# EAGLE library part 6123XX20621_61230820621 (library WR-BHD)
WR-BHD 2.54 mm Male Characteristics Working Voltage: 250 V UL approval: E323964 UL94-V0 Applications Industrial Production lines Details see: www.we-online.com/components/products/WTB_WR_BHD_BOX_HEADER_2_54MM_MALE_PCB Updated by Ella 2026-09-16 2026 (C) Würth Elektronik
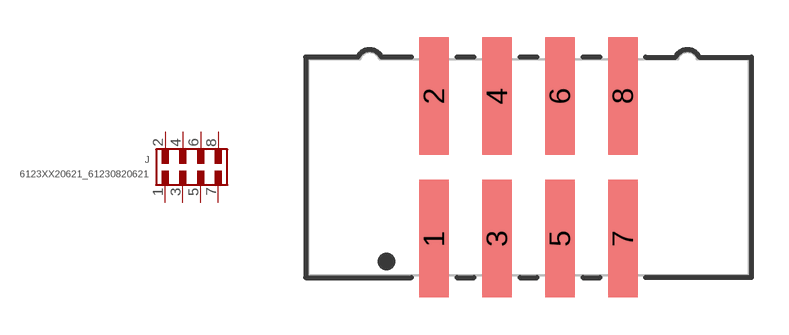
[diagram p96: symbol with the pads of 61230820621; footprint 61230820621]

Designator prefix J

## 6123XX20621_61230820621 (CATEGORY: Connectors; DATASHEET: https://www.we-online.com/redexpert/spec/61230820621?ae; GENDER: Male; LENGTH: 17.8 mm; MANUFACTURER: Würth Elektronik; MOUNT: SMT; MPN: 61230820621; OPERATING_TEMPERATURE: -40 °C up to +125 °C; PACKAGING: Tape and Reel with Cap; PINS: 8; PITCH: 2.54mm; RATED_CURRENT: 3 A; SIZE: SMT Straight; TYPE: Straight; VALUE: 61230820621; VERSION: Low Profile)  [61230820621]
1  1  pas
2  2  pas
3  3  pas
4  4  pas
5  5  pas
6  6  pas
7  7  pas
8  8  pas

## Footprint 61230820621 (pad centres in mm)
WR-BHD Wire-to-Board Connectors, 2.54mm, Male, SMT Straight, 8pins
smd 1.2 x 4.75: 1 -3.81,-2.875; 2 -3.81,2.875; 3 -1.27,-2.875; 4 -1.27,2.875; 5 1.27,-2.875; 6 1.27,2.875; 7 3.81,-2.875; 8 3.81,2.875